# Altium integrated library JY31N.IntLib: 1 symbol
Pins are listed as number, name and electrical type; pins without a type are passive.

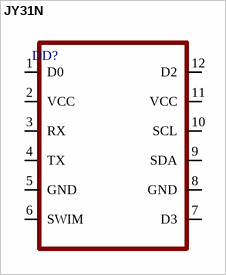
[diagram p0: symbol JY31N]

## JY31N
designator DD?, comment esp32-c3 mini  (value not drawn)
footprint JY31N
pins: 1 D0, 2 VCC, 3 RX, 4 TX, 5 GND, 6 SWIM, 7 D3, 8 GND, 9 SDA, 10 SCL, 11 VCC, 12 D2